# EAGLE library part VNH5019 (library MDULib)
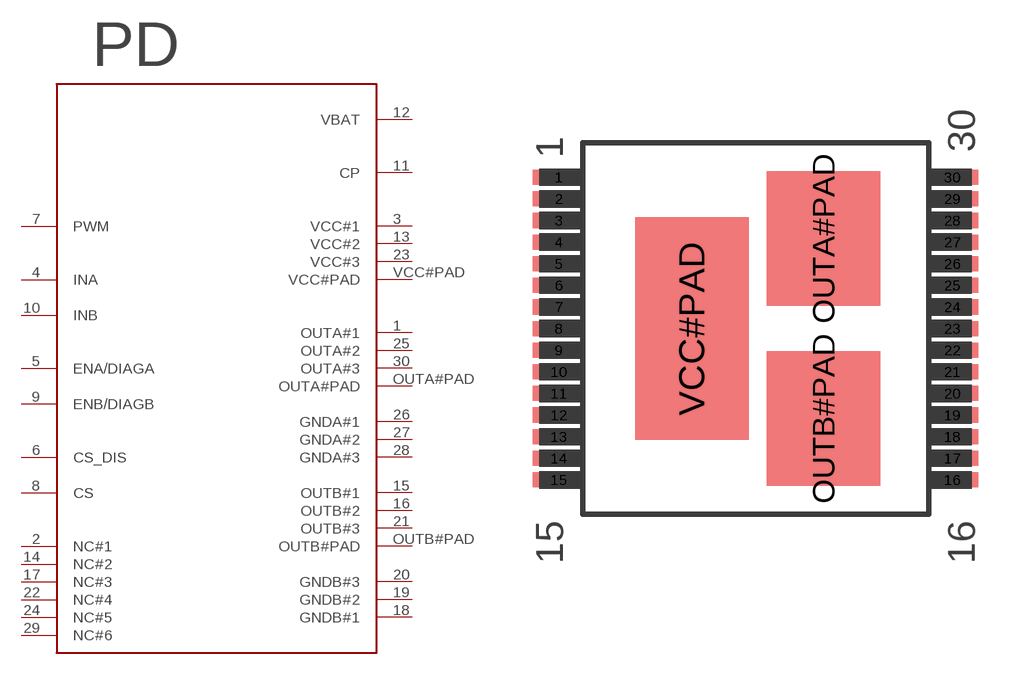
[diagram p2: symbol with the pads of VNH5019; footprint VNH5019]

Designator prefix PD

## VNH5019  [VNH5019]
1  OUTA#1  out
2  NC#1  nc
3  VCC#1  pwr
4  INA  in
5  ENA/DIAGA  in
6  CS_DIS  in
7  PWM  in
8  CS  out
9  ENB/DIAGB  in
10  INB  in
11  CP  out
12  VBAT  pwr
13  VCC#2  pwr
14  NC#2  nc
15  OUTB#1  out
16  OUTB#2  out
17  NC#3  nc
18  GNDB#1  pwr
19  GNDB#2  pwr
20  GNDB#3  pwr
21  OUTB#3  out
22  NC#4  nc
23  VCC#3  pwr
24  NC#5  nc
25  OUTA#2  out
26  GNDA#1  pwr
27  GNDA#2  pwr
28  GNDA#3  pwr
29  NC#6  nc
30  OUTA#3  out
OUTA#PAD  OUTA#PAD  out
OUTB#PAD  OUTB#PAD  out
VCC#PAD  VCC#PAD  pwr

## Footprint VNH5019 (pad centres in mm)
smd 2.4 x 0.7: 1 1.06,-1.89; 2 1.06,-2.89; 3 1.06,-3.89; 4 1.06,-4.89; 5 1.06,-5.89; 6 1.06,-6.89; 7 1.06,-7.89; 8 1.06,-8.89; 9 1.06,-9.89; 10 1.06,-10.89; 11 1.06,-11.89; 12 1.06,-12.89; 13 1.06,-13.89; 14 1.06,-14.89; 15 1.06,-15.89; 16 19.26,-15.89; 17 19.26,-14.89; 18 19.26,-13.89; 19 19.26,-12.89; 20 19.26,-11.89; 21 19.26,-10.89; 22 19.26,-9.89; 23 19.26,-8.89; 24 19.26,-7.89; 25 19.26,-6.89; 26 19.26,-5.89; 27 19.26,-4.89; 28 19.26,-3.89; 29 19.26,-2.89; 30 19.26,-1.89
smd 5.25 x 6.23: OUTA#PAD 13.31,-4.725; OUTB#PAD 13.31,-13.055
smd 5.25 x 10.3: VCC#PAD 7.21,-8.89